# Altium footprint library TactSwith 12 x 12.PcbLib: 1 footprints
Each footprint in its own frame and in the unit in brackets; x right, y up, seen from the top. Pads: shape width x height; smd on the part's side, far side on the other; paste and mask are expansions set on the pad; w line width, h text height; cw(c..) or ccw(c..) is an arc to the next point about the centre after c.
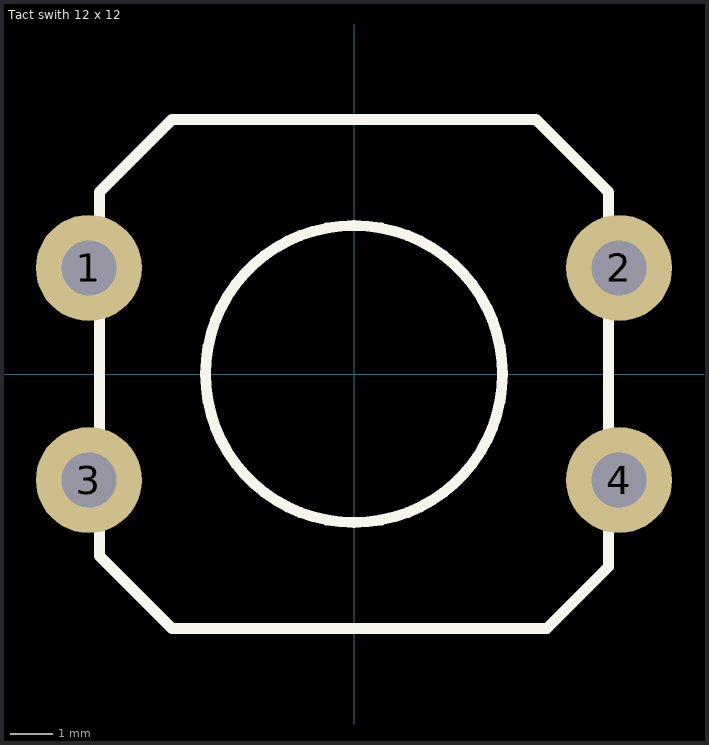
[diagram p0: the footprint, top view; thin cyan lines are the x and y axes]

## Tact swith 12 x 12 [mm] "Tact swith 12 x 12"
pads (4):
  round 2.5 hole 1.3: 1(-6.25,2.5) 2(6.25,2.5) 3(-6.25,-2.5) 4(6.25,-2.5)
Top Overlay:
  circle w0.254: c0,0 r3.5
  lines w0.254: -6,-4.287 -6,4.287 -4.287,6 4.287,6 6,4.287 6,-4.541 4.541,-6 -4.287,-6 -6,-4.287
3D body "TC-12EF.STEP": height 12, standoff -3.5, extent -6.934,-6.127 6.934,5.873